# Altium integrated library 74479014_Altium_WE-MI_rev19a.IntLib: 61 symbols
Pins are listed as number, name and electrical type; pins without a type are passive.

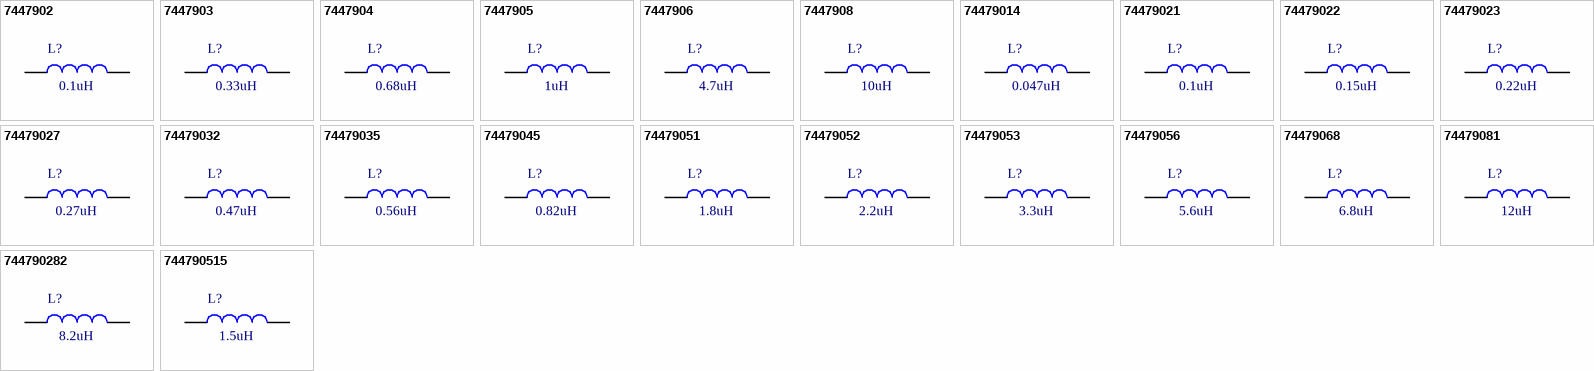
[diagram p0: symbols 7447902 to 744790515]

## 7447902
designator L?, comment 0.1uH
WE-MI SMT Multilayer Inductor, size 0805, 0.1uH, 250mA; Part Number: 7447902; DC Resistance max.: 0.3Ohm; Self Resonant Frequency: 255MHz; Q-Factor: 20; ComponentLink1Description: Manufacturer; ComponentLink1URL: http://www.we-online.de; ComponentLink2Description: Datasheet; ComponentLink2URL: https://katalog.we-online.com/pbs/datasheet/7447902.pdf; Published Date: March 2019; Publisher: Wurth Elektronik; Rated Current: 250mA; Inductance: 0.1uH; Operating Temperature: -55 to +125degC; Mounting Technology: SMT; Packaging: Tape and Reel; Size: 0805
footprint WE-MI_0805_H=0.9mm
pins: 1, 2

## 7447903
designator L?, comment 0.33uH
WE-MI SMT Multilayer Inductor, size 0805, 0.33uH, 250mA; Part Number: 7447903; DC Resistance max.: 0.5Ohm; Self Resonant Frequency: 165MHz; Q-Factor: 20; ComponentLink1Description: Manufacturer; ComponentLink1URL: http://www.we-online.de; ComponentLink2Description: Datasheet; ComponentLink2URL: https://katalog.we-online.com/pbs/datasheet/7447903.pdf; Published Date: March 2019; Publisher: Wurth Elektronik; Rated Current: 250mA; Inductance: 0.33uH; Operating Temperature: -55 to +125degC; Mounting Technology: SMT; Packaging: Tape and Reel; Size: 0805
footprint WE-MI_0805_H=0.9mm
pins: 1, 2

## 7447904
designator L?, comment 0.68uH
WE-MI SMT Multilayer Inductor, size 0805, 0.68uH, 150mA; Part Number: 7447904; DC Resistance max.: 0.8Ohm; Self Resonant Frequency: 120MHz; Q-Factor: 25; ComponentLink1Description: Manufacturer; ComponentLink1URL: http://www.we-online.de; ComponentLink2Description: Datasheet; ComponentLink2URL: https://katalog.we-online.com/pbs/datasheet/7447904.pdf; Published Date: March 2019; Publisher: Wurth Elektronik; Rated Current: 150mA; Inductance: 0.68uH; Operating Temperature: -55 to +125degC; Mounting Technology: SMT; Packaging: Tape and Reel; Size: 0805
footprint WE-MI_0805_H=1.25mm
pins: 1, 2

## 7447905
designator L?, comment 1uH
WE-MI SMT Multilayer Inductor, size 0805, 1uH, 50mA; Part Number: 7447905; DC Resistance max.: 0.4Ohm; Self Resonant Frequency: 85MHz; Q-Factor: 45; ComponentLink1Description: Manufacturer; ComponentLink1URL: http://www.we-online.de; ComponentLink2Description: Datasheet; ComponentLink2URL: https://katalog.we-online.com/pbs/datasheet/7447905.pdf; Published Date: March 2019; Publisher: Wurth Elektronik; Rated Current: 50mA; Inductance: 1uH; Operating Temperature: -55 to +125degC; Mounting Technology: SMT; Packaging: Tape and Reel; Size: 0805
footprint WE-MI_0805_H=0.9mm
pins: 1, 2

## 7447906
designator L?, comment 4.7uH
WE-MI SMT Multilayer Inductor, size 0805, 4.7uH, 30mA; Part Number: 7447906; DC Resistance max.: 1Ohm; Self Resonant Frequency: 41MHz; Q-Factor: 45; ComponentLink1Description: Manufacturer; ComponentLink1URL: http://www.we-online.de; ComponentLink2Description: Datasheet; ComponentLink2URL: https://katalog.we-online.com/pbs/datasheet/7447906.pdf; Published Date: March 2019; Publisher: Wurth Elektronik; Rated Current: 30mA; Inductance: 4.7uH; Operating Temperature: -55 to +125degC; Mounting Technology: SMT; Packaging: Tape and Reel; Size: 0805
footprint WE-MI_0805_H=1.25mm
pins: 1, 2

## 7447908
designator L?, comment 10uH
WE-MI SMT Multilayer Inductor, size 0805, 10uH, 15mA; Part Number: 7447908; DC Resistance max.: 1Ohm; Self Resonant Frequency: 28MHz; Q-Factor: 50; ComponentLink1Description: Manufacturer; ComponentLink1URL: http://www.we-online.de; ComponentLink2Description: Datasheet; ComponentLink2URL: https://katalog.we-online.com/pbs/datasheet/7447908.pdf; Published Date: March 2019; Publisher: Wurth Elektronik; Rated Current: 15mA; Inductance: 10uH; Operating Temperature: -55 to +125degC; Mounting Technology: SMT; Packaging: Tape and Reel; Size: 0805
footprint WE-MI_0805_H=1.25mm
pins: 1, 2

## 74479014
designator L?, comment 0.047uH
WE-MI SMT Multilayer Inductor, size 0805, 0.047uH, 300mA; Part Number: 74479014; DC Resistance max.: 0.2Ohm; Self Resonant Frequency: 320MHz; Q-Factor: 20; ComponentLink1Description: Manufacturer; ComponentLink1URL: http://www.we-online.de; ComponentLink2Description: Datasheet; ComponentLink2URL: https://katalog.we-online.com/pbs/datasheet/74479014.pdf; Published Date: March 2019; Publisher: Wurth Elektronik; Rated Current: 300mA; Inductance: 0.047uH; Operating Temperature: -55 to +125degC; Mounting Technology: SMT; Packaging: Tape and Reel; Size: 0805
footprint WE-MI_0805_H=0.9mm
pins: 1, 2

## 74479021
designator L?, comment 0.1uH
WE-MI SMT Multilayer Inductor, size 0805, 0.1uH, 250mA; Part Number: 74479021; DC Resistance max.: 0.2Ohm; Self Resonant Frequency: 230MHz; Q-Factor: 20; ComponentLink1Description: Manufacturer; ComponentLink1URL: http://www.we-online.de; ComponentLink2Description: Datasheet; ComponentLink2URL: https://katalog.we-online.com/pbs/datasheet/74479021.pdf; Published Date: March 2019; Publisher: Wurth Elektronik; Rated Current: 250mA; Inductance: 0.1uH; Operating Temperature: -55 to +125degC; Mounting Technology: SMT; Packaging: Tape and Reel; Size: 0805
footprint WE-MI_0805_H=0.9mm
pins: 1, 2

## 74479022
designator L?, comment 0.15uH
WE-MI SMT Multilayer Inductor, size 0805, 0.15uH, 250mA; Part Number: 74479022; DC Resistance max.: 0.4Ohm; Self Resonant Frequency: 210MHz; Q-Factor: 20; ComponentLink1Description: Manufacturer; ComponentLink1URL: http://www.we-online.de; ComponentLink2Description: Datasheet; ComponentLink2URL: https://katalog.we-online.com/pbs/datasheet/74479022.pdf; Published Date: March 2019; Publisher: Wurth Elektronik; Rated Current: 250mA; Inductance: 0.15uH; Operating Temperature: -55 to +125degC; Mounting Technology: SMT; Packaging: Tape and Reel; Size: 0805
footprint WE-MI_0805_H=0.9mm
pins: 1, 2

## 74479023
designator L?, comment 0.22uH
WE-MI SMT Multilayer Inductor, size 0805, 0.22uH, 250mA; Part Number: 74479023; DC Resistance max.: 0.5Ohm; Self Resonant Frequency: 195MHz; Q-Factor: 20; ComponentLink1Description: Manufacturer; ComponentLink1URL: http://www.we-online.de; ComponentLink2Description: Datasheet; ComponentLink2URL: https://katalog.we-online.com/pbs/datasheet/74479023.pdf; Published Date: March 2019; Publisher: Wurth Elektronik; Rated Current: 250mA; Inductance: 0.22uH; Operating Temperature: -55 to +125degC; Mounting Technology: SMT; Packaging: Tape and Reel; Size: 0805
footprint WE-MI_0805_H=0.9mm
pins: 1, 2

## 74479027
designator L?, comment 0.27uH
WE-MI SMT Multilayer Inductor, size 0805, 0.27uH, 250mA; Part Number: 74479027; DC Resistance max.: 0.5Ohm; Self Resonant Frequency: 170MHz; Q-Factor: 20; ComponentLink1Description: Manufacturer; ComponentLink1URL: http://www.we-online.de; ComponentLink2Description: Datasheet; ComponentLink2URL: https://katalog.we-online.com/pbs/datasheet/74479027.pdf; Published Date: March 2019; Publisher: Wurth Elektronik; Rated Current: 250mA; Inductance: 0.27uH; Operating Temperature: -55 to +125degC; Mounting Technology: SMT; Packaging: Tape and Reel; Size: 0805
footprint WE-MI_0805_H=0.9mm
pins: 1, 2

## 74479032
designator L?, comment 0.47uH
WE-MI SMT Multilayer Inductor, size 0805, 0.47uH, 200mA; Part Number: 74479032; DC Resistance max.: 0.6Ohm; Self Resonant Frequency: 140MHz; Q-Factor: 25; ComponentLink1Description: Manufacturer; ComponentLink1URL: http://www.we-online.de; ComponentLink2Description: Datasheet; ComponentLink2URL: https://katalog.we-online.com/pbs/datasheet/74479032.pdf; Published Date: March 2019; Publisher: Wurth Elektronik; Rated Current: 200mA; Inductance: 0.47uH; Operating Temperature: -55 to +125degC; Mounting Technology: SMT; Packaging: Tape and Reel; Size: 0805
footprint WE-MI_0805_H=1.25mm
pins: 1, 2

## 74479035
designator L?, comment 0.56uH
WE-MI SMT Multilayer Inductor, size 0805, 0.56uH, 150mA; Part Number: 74479035; DC Resistance max.: 0.7Ohm; Self Resonant Frequency: 130MHz; Q-Factor: 25; ComponentLink1Description: Manufacturer; ComponentLink1URL: http://www.we-online.de; ComponentLink2Description: Datasheet; ComponentLink2URL: https://katalog.we-online.com/pbs/datasheet/74479035.pdf; Published Date: March 2019; Publisher: Wurth Elektronik; Rated Current: 150mA; Inductance: 0.56uH; Operating Temperature: -55 to +125degC; Mounting Technology: SMT; Packaging: Tape and Reel; Size: 0805
footprint WE-MI_0805_H=1.25mm
pins: 1, 2

## 74479045
designator L?, comment 0.82uH
WE-MI SMT Multilayer Inductor, size 0805, 0.82uH, 150mA; Part Number: 74479045; DC Resistance max.: 1Ohm; Self Resonant Frequency: 115MHz; Q-Factor: 25; ComponentLink1Description: Manufacturer; ComponentLink1URL: http://www.we-online.de; ComponentLink2Description: Datasheet; ComponentLink2URL: https://katalog.we-online.com/pbs/datasheet/74479045.pdf; Published Date: March 2019; Publisher: Wurth Elektronik; Rated Current: 150mA; Inductance: 0.82uH; Operating Temperature: -55 to +125degC; Mounting Technology: SMT; Packaging: Tape and Reel; Size: 0805
footprint WE-MI_0805_H=1.25mm
pins: 1, 2

## 74479051
designator L?, comment 1.8uH
WE-MI SMT Multilayer Inductor, size 0805, 1.8uH, 50mA; Part Number: 74479051; DC Resistance max.: 0.6Ohm; Self Resonant Frequency: 60MHz; Q-Factor: 45; ComponentLink1Description: Manufacturer; ComponentLink1URL: http://www.we-online.de; ComponentLink2Description: Datasheet; ComponentLink2URL: https://katalog.we-online.com/pbs/datasheet/74479051.pdf; Published Date: March 2019; Publisher: Wurth Elektronik; Rated Current: 50mA; Inductance: 1.8uH; Operating Temperature: -55 to +125degC; Mounting Technology: SMT; Packaging: Tape and Reel; Size: 0805
footprint WE-MI_0805_H=0.9mm
pins: 1, 2

## 74479052
designator L?, comment 2.2uH
WE-MI SMT Multilayer Inductor, size 0805, 2.2uH, 30mA; Part Number: 74479052; DC Resistance max.: 0.6Ohm; Self Resonant Frequency: 55MHz; Q-Factor: 45; ComponentLink1Description: Manufacturer; ComponentLink1URL: http://www.we-online.de; ComponentLink2Description: Datasheet; ComponentLink2URL: https://katalog.we-online.com/pbs/datasheet/74479052.pdf; Published Date: March 2019; Publisher: Wurth Elektronik; Rated Current: 30mA; Inductance: 2.2uH; Operating Temperature: -55 to +125degC; Mounting Technology: SMT; Packaging: Tape and Reel; Size: 0805
footprint WE-MI_0805_H=0.9mm
pins: 1, 2

## 74479053
designator L?, comment 3.3uH
WE-MI SMT Multilayer Inductor, size 0805, 3.3uH, 30mA; Part Number: 74479053; DC Resistance max.: 0.8Ohm; Self Resonant Frequency: 45MHz; Q-Factor: 45; ComponentLink1Description: Manufacturer; ComponentLink1URL: http://www.we-online.de; ComponentLink2Description: Datasheet; ComponentLink2URL: https://katalog.we-online.com/pbs/datasheet/74479053.pdf; Published Date: March 2019; Publisher: Wurth Elektronik; Rated Current: 30mA; Inductance: 3.3uH; Operating Temperature: -55 to +125degC; Mounting Technology: SMT; Packaging: Tape and Reel; Size: 0805
footprint WE-MI_0805_H=1.25mm
pins: 1, 2

## 74479056
designator L?, comment 5.6uH
WE-MI SMT Multilayer Inductor, size 0805, 5.6uH, 15mA; Part Number: 74479056; DC Resistance max.: 0.9Ohm; Self Resonant Frequency: 37MHz; Q-Factor: 50; ComponentLink1Description: Manufacturer; ComponentLink1URL: http://www.we-online.de; ComponentLink2Description: Datasheet; ComponentLink2URL: https://katalog.we-online.com/pbs/datasheet/74479056.pdf; Published Date: March 2019; Publisher: Wurth Elektronik; Rated Current: 15mA; Inductance: 5.6uH; Operating Temperature: -55 to +125degC; Mounting Technology: SMT; Packaging: Tape and Reel; Size: 0805
footprint WE-MI_0805_H=1.25mm
pins: 1, 2

## 74479068
designator L?, comment 6.8uH
WE-MI SMT Multilayer Inductor, size 0805, 6.8uH, 15mA; Part Number: 74479068; DC Resistance max.: 1Ohm; Self Resonant Frequency: 29MHz; Q-Factor: 50; ComponentLink1Description: Manufacturer; ComponentLink1URL: http://www.we-online.de; ComponentLink2Description: Datasheet; ComponentLink2URL: https://katalog.we-online.com/pbs/datasheet/74479068.pdf; Published Date: March 2019; Publisher: Wurth Elektronik; Rated Current: 15mA; Inductance: 6.8uH; Operating Temperature: -55 to +125degC; Mounting Technology: SMT; Packaging: Tape and Reel; Size: 0805
footprint WE-MI_0805_H=1.25mm
pins: 1, 2

## 74479081
designator L?, comment 12uH
WE-MI SMT Multilayer Inductor, size 0805, 12uH, 15mA; Part Number: 74479081; DC Resistance max.: 1.1Ohm; Self Resonant Frequency: 26MHz; Q-Factor: 50; ComponentLink1Description: Manufacturer; ComponentLink1URL: http://www.we-online.de; ComponentLink2Description: Datasheet; ComponentLink2URL: https://katalog.we-online.com/pbs/datasheet/74479081.pdf; Published Date: March 2019; Publisher: Wurth Elektronik; Rated Current: 15mA; Inductance: 12uH; Operating Temperature: -55 to +125degC; Mounting Technology: SMT; Packaging: Tape and Reel; Size: 0805
footprint WE-MI_0805_H=1.25mm
pins: 1, 2

## 744790282
designator L?, comment 8.2uH
WE-MI SMT Multilayer Inductor, size 0805, 8.2uH, 15mA; Part Number: 744790282; DC Resistance max.: 1Ohm; Self Resonant Frequency: 28MHz; Q-Factor: 50; ComponentLink1Description: Manufacturer; ComponentLink1URL: http://www.we-online.de; ComponentLink2Description: Datasheet; ComponentLink2URL: https://katalog.we-online.com/pbs/datasheet/744790282.pdf; Published Date: March 2019; Publisher: Wurth Elektronik; Rated Current: 15mA; Inductance: 8.2uH; Operating Temperature: -55 to +125degC; Mounting Technology: SMT; Packaging: Tape and Reel; Size: 0805
footprint WE-MI_0805_H=0.9mm
pins: 1, 2

## 744790515
designator L?, comment 1.5uH
WE-MI SMT Multilayer Inductor, size 0805, 1.5uH, 50mA; Part Number: 744790515; DC Resistance max.: 0.5Ohm; Self Resonant Frequency: 65MHz; Q-Factor: 45; ComponentLink1Description: Manufacturer; ComponentLink1URL: http://www.we-online.de; ComponentLink2Description: Datasheet; ComponentLink2URL: https://katalog.we-online.com/pbs/datasheet/744790515.pdf; Published Date: March 2019; Publisher: Wurth Elektronik; Rated Current: 50mA; Inductance: 1.5uH; Operating Temperature: -55 to +125degC; Mounting Technology: SMT; Packaging: Tape and Reel; Size: 0805
footprint WE-MI_0805_H=0.9mm
pins: 1, 2


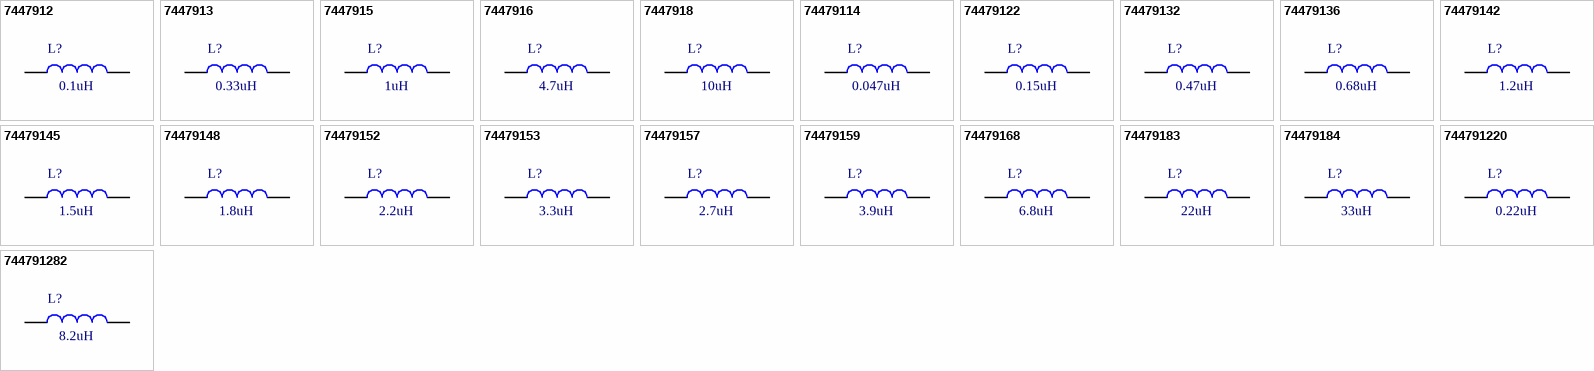
[diagram p1: symbols 7447912 to 744791282]

## 7447912
designator L?, comment 0.1uH
WE-MI SMT Multilayer Inductor, size 1206, 0.1uH, 250mA; Part Number: 7447912; DC Resistance max.: 0.25Ohm; Self Resonant Frequency: 270MHz; Q-Factor: 20; ComponentLink1Description: Manufacturer; ComponentLink1URL: http://www.we-online.de; ComponentLink2Description: Datasheet; ComponentLink2URL: https://katalog.we-online.com/pbs/datasheet/7447912.pdf; Published Date: March 2019; Publisher: Wurth Elektronik; Rated Current: 250mA; Inductance: 0.1uH; Operating Temperature: -55 to +125degC; Mounting Technology: SMT; Packaging: Tape and Reel; Size: 1206
footprint WE-MI_1206
pins: 1, 2

## 7447913
designator L?, comment 0.33uH
WE-MI SMT Multilayer Inductor, size 1206, 0.33uH, 250mA; Part Number: 7447913; DC Resistance max.: 0.5Ohm; Self Resonant Frequency: 145MHz; Q-Factor: 20; ComponentLink1Description: Manufacturer; ComponentLink1URL: http://www.we-online.de; ComponentLink2Description: Datasheet; ComponentLink2URL: https://katalog.we-online.com/pbs/datasheet/7447913.pdf; Published Date: March 2019; Publisher: Wurth Elektronik; Rated Current: 250mA; Inductance: 0.33uH; Operating Temperature: -55 to +125degC; Mounting Technology: SMT; Packaging: Tape and Reel; Size: 1206
footprint WE-MI_1206
pins: 1, 2

## 7447915
designator L?, comment 1uH
WE-MI SMT Multilayer Inductor, size 1206, 1uH, 100mA; Part Number: 7447915; DC Resistance max.: 0.4Ohm; Self Resonant Frequency: 87MHz; Q-Factor: 45; ComponentLink1Description: Manufacturer; ComponentLink1URL: http://www.we-online.de; ComponentLink2Description: Datasheet; ComponentLink2URL: https://katalog.we-online.com/pbs/datasheet/7447915.pdf; Published Date: March 2019; Publisher: Wurth Elektronik; Rated Current: 100mA; Inductance: 1uH; Operating Temperature: -55 to +125degC; Mounting Technology: SMT; Packaging: Tape and Reel; Size: 1206
footprint WE-MI_1206
pins: 1, 2

## 7447916
designator L?, comment 4.7uH
WE-MI SMT Multilayer Inductor, size 1206, 4.7uH, 50mA; Part Number: 7447916; DC Resistance max.: 0.9Ohm; Self Resonant Frequency: 41MHz; Q-Factor: 45; ComponentLink1Description: Manufacturer; ComponentLink1URL: http://www.we-online.de; ComponentLink2Description: Datasheet; ComponentLink2URL: https://katalog.we-online.com/pbs/datasheet/7447916.pdf; Published Date: March 2019; Publisher: Wurth Elektronik; Rated Current: 50mA; Inductance: 4.7uH; Operating Temperature: -55 to +125degC; Mounting Technology: SMT; Packaging: Tape and Reel; Size: 1206
footprint WE-MI_1206
pins: 1, 2

## 7447918
designator L?, comment 10uH
WE-MI SMT Multilayer Inductor, size 1206, 10uH, 25mA; Part Number: 7447918; DC Resistance max.: 0.6Ohm; Self Resonant Frequency: 26MHz; Q-Factor: 50; ComponentLink1Description: Manufacturer; ComponentLink1URL: http://www.we-online.de; ComponentLink2Description: Datasheet; ComponentLink2URL: https://katalog.we-online.com/pbs/datasheet/7447918.pdf; Published Date: March 2019; Publisher: Wurth Elektronik; Rated Current: 25mA; Inductance: 10uH; Operating Temperature: -55 to +125degC; Mounting Technology: SMT; Packaging: Tape and Reel; Size: 1206
footprint WE-MI_1206
pins: 1, 2

## 74479114
designator L?, comment 0.047uH
WE-MI SMT Multilayer Inductor, size 1206, 0.047uH, 300mA; Part Number: 74479114; DC Resistance max.: 0.15Ohm; Self Resonant Frequency: 320MHz; Q-Factor: 20; ComponentLink1Description: Manufacturer; ComponentLink1URL: http://www.we-online.de; ComponentLink2Description: Datasheet; ComponentLink2URL: https://katalog.we-online.com/pbs/datasheet/74479114.pdf; Published Date: March 2019; Publisher: Wurth Elektronik; Rated Current: 300mA; Inductance: 0.047uH; Operating Temperature: -55 to +125degC; Mounting Technology: SMT; Packaging: Tape and Reel; Size: 1206
footprint WE-MI_1206
pins: 1, 2

## 74479122
designator L?, comment 0.15uH
WE-MI SMT Multilayer Inductor, size 1206, 0.15uH, 250mA; Part Number: 74479122; DC Resistance max.: 0.3Ohm; Self Resonant Frequency: 200MHz; Q-Factor: 20; ComponentLink1Description: Manufacturer; ComponentLink1URL: http://www.we-online.de; ComponentLink2Description: Datasheet; ComponentLink2URL: https://katalog.we-online.com/pbs/datasheet/74479122.pdf; Published Date: March 2019; Publisher: Wurth Elektronik; Rated Current: 250mA; Inductance: 0.15uH; Operating Temperature: -55 to +125degC; Mounting Technology: SMT; Packaging: Tape and Reel; Size: 1206
footprint WE-MI_1206
pins: 1, 2

## 74479132
designator L?, comment 0.47uH
WE-MI SMT Multilayer Inductor, size 1206, 0.47uH, 200mA; Part Number: 74479132; DC Resistance max.: 0.6Ohm; Self Resonant Frequency: 125MHz; Q-Factor: 25; ComponentLink1Description: Manufacturer; ComponentLink1URL: http://www.we-online.de; ComponentLink2Description: Datasheet; ComponentLink2URL: https://katalog.we-online.com/pbs/datasheet/74479132.pdf; Published Date: March 2019; Publisher: Wurth Elektronik; Rated Current: 200mA; Inductance: 0.47uH; Operating Temperature: -55 to +125degC; Mounting Technology: SMT; Packaging: Tape and Reel; Size: 1206
footprint WE-MI_1206
pins: 1, 2

## 74479136
designator L?, comment 0.68uH
WE-MI SMT Multilayer Inductor, size 1206, 0.68uH, 150mA; Part Number: 74479136; DC Resistance max.: 0.8Ohm; Self Resonant Frequency: 105MHz; Q-Factor: 25; ComponentLink1Description: Manufacturer; ComponentLink1URL: http://www.we-online.de; ComponentLink2Description: Datasheet; ComponentLink2URL: https://katalog.we-online.com/pbs/datasheet/74479136.pdf; Published Date: March 2019; Publisher: Wurth Elektronik; Rated Current: 150mA; Inductance: 0.68uH; Operating Temperature: -55 to +125degC; Mounting Technology: SMT; Packaging: Tape and Reel; Size: 1206
footprint WE-MI_1206
pins: 1, 2

## 74479142
designator L?, comment 1.2uH
WE-MI SMT Multilayer Inductor, size 1206, 1.2uH, 100mA; Part Number: 74479142; DC Resistance max.: 0.5Ohm; Self Resonant Frequency: 75MHz; Q-Factor: 45; ComponentLink1Description: Manufacturer; ComponentLink1URL: http://www.we-online.de; ComponentLink2Description: Datasheet; ComponentLink2URL: https://katalog.we-online.com/pbs/datasheet/74479142.pdf; Published Date: March 2019; Publisher: Wurth Elektronik; Rated Current: 100mA; Inductance: 1.2uH; Operating Temperature: -55 to +125degC; Mounting Technology: SMT; Packaging: Tape and Reel; Size: 1206
footprint WE-MI_1206
pins: 1, 2

## 74479145
designator L?, comment 1.5uH
WE-MI SMT Multilayer Inductor, size 1206, 1.5uH, 50mA; Part Number: 74479145; DC Resistance max.: 0.5Ohm; Self Resonant Frequency: 69MHz; Q-Factor: 45; ComponentLink1Description: Manufacturer; ComponentLink1URL: http://www.we-online.de; ComponentLink2Description: Datasheet; ComponentLink2URL: https://katalog.we-online.com/pbs/datasheet/74479145.pdf; Published Date: March 2019; Publisher: Wurth Elektronik; Rated Current: 50mA; Inductance: 1.5uH; Operating Temperature: -55 to +125degC; Mounting Technology: SMT; Packaging: Tape and Reel; Size: 1206
footprint WE-MI_1206
pins: 1, 2

## 74479148
designator L?, comment 1.8uH
WE-MI SMT Multilayer Inductor, size 1206, 1.8uH, 50mA; Part Number: 74479148; DC Resistance max.: 0.5Ohm; Self Resonant Frequency: 64MHz; Q-Factor: 45; ComponentLink1Description: Manufacturer; ComponentLink1URL: http://www.we-online.de; ComponentLink2Description: Datasheet; ComponentLink2URL: https://katalog.we-online.com/pbs/datasheet/74479148.pdf; Published Date: March 2019; Publisher: Wurth Elektronik; Rated Current: 50mA; Inductance: 1.8uH; Operating Temperature: -55 to +125degC; Mounting Technology: SMT; Packaging: Tape and Reel; Size: 1206
footprint WE-MI_1206
pins: 1, 2

## 74479152
designator L?, comment 2.2uH
WE-MI SMT Multilayer Inductor, size 1206, 2.2uH, 50mA; Part Number: 74479152; DC Resistance max.: 0.6Ohm; Self Resonant Frequency: 58MHz; Q-Factor: 45; ComponentLink1Description: Manufacturer; ComponentLink1URL: http://www.we-online.de; ComponentLink2Description: Datasheet; ComponentLink2URL: https://katalog.we-online.com/pbs/datasheet/74479152.pdf; Published Date: March 2019; Publisher: Wurth Elektronik; Rated Current: 50mA; Inductance: 2.2uH; Operating Temperature: -55 to +125degC; Mounting Technology: SMT; Packaging: Tape and Reel; Size: 1206
footprint WE-MI_1206
pins: 1, 2

## 74479153
designator L?, comment 3.3uH
WE-MI SMT Multilayer Inductor, size 1206, 3.3uH, 50mA; Part Number: 74479153; DC Resistance max.: 0.7Ohm; Self Resonant Frequency: 48MHz; Q-Factor: 45; ComponentLink1Description: Manufacturer; ComponentLink1URL: http://www.we-online.de; ComponentLink2Description: Datasheet; ComponentLink2URL: https://katalog.we-online.com/pbs/datasheet/74479153.pdf; Published Date: March 2019; Publisher: Wurth Elektronik; Rated Current: 50mA; Inductance: 3.3uH; Operating Temperature: -55 to +125degC; Mounting Technology: SMT; Packaging: Tape and Reel; Size: 1206
footprint WE-MI_1206
pins: 1, 2

## 74479157
designator L?, comment 2.7uH
WE-MI SMT Multilayer Inductor, size 1206, 2.7uH, 50mA; Part Number: 74479157; DC Resistance max.: 0.6Ohm; Self Resonant Frequency: 52MHz; Q-Factor: 45; ComponentLink1Description: Manufacturer; ComponentLink1URL: http://www.we-online.de; ComponentLink2Description: Datasheet; ComponentLink2URL: https://katalog.we-online.com/pbs/datasheet/74479157.pdf; Published Date: March 2019; Publisher: Wurth Elektronik; Rated Current: 50mA; Inductance: 2.7uH; Operating Temperature: -55 to +125degC; Mounting Technology: SMT; Packaging: Tape and Reel; Size: 1206
footprint WE-MI_1206
pins: 1, 2

## 74479159
designator L?, comment 3.9uH
WE-MI SMT Multilayer Inductor, size 1206, 3.9uH, 50mA; Part Number: 74479159; DC Resistance max.: 0.8Ohm; Self Resonant Frequency: 44MHz; Q-Factor: 45; ComponentLink1Description: Manufacturer; ComponentLink1URL: http://www.we-online.de; ComponentLink2Description: Datasheet; ComponentLink2URL: https://katalog.we-online.com/pbs/datasheet/74479159.pdf; Published Date: March 2019; Publisher: Wurth Elektronik; Rated Current: 50mA; Inductance: 3.9uH; Operating Temperature: -55 to +125degC; Mounting Technology: SMT; Packaging: Tape and Reel; Size: 1206
footprint WE-MI_1206
pins: 1, 2

## 74479168
designator L?, comment 6.8uH
WE-MI SMT Multilayer Inductor, size 1206, 6.8uH, 25mA; Part Number: 74479168; DC Resistance max.: 0.9Ohm; Self Resonant Frequency: 29MHz; Q-Factor: 50; ComponentLink1Description: Manufacturer; ComponentLink1URL: http://www.we-online.de; ComponentLink2Description: Datasheet; ComponentLink2URL: https://katalog.we-online.com/pbs/datasheet/74479168.pdf; Published Date: March 2019; Publisher: Wurth Elektronik; Rated Current: 25mA; Inductance: 6.8uH; Operating Temperature: -55 to +125degC; Mounting Technology: SMT; Packaging: Tape and Reel; Size: 1206
footprint WE-MI_1206
pins: 1, 2

## 74479183
designator L?, comment 22uH
WE-MI SMT Multilayer Inductor, size 1206, 22uH, 5mA; Part Number: 74479183; DC Resistance max.: 0.9Ohm; Self Resonant Frequency: 19MHz; Q-Factor: 50; ComponentLink1Description: Manufacturer; ComponentLink1URL: http://www.we-online.de; ComponentLink2Description: Datasheet; ComponentLink2URL: https://katalog.we-online.com/pbs/datasheet/74479183.pdf; Published Date: March 2019; Publisher: Wurth Elektronik; Rated Current: 5mA; Inductance: 22uH; Operating Temperature: -55 to +125degC; Mounting Technology: SMT; Packaging: Tape and Reel; Size: 1206
footprint WE-MI_1206
pins: 1, 2

## 74479184
designator L?, comment 33uH
WE-MI SMT Multilayer Inductor, size 1206, 33uH, 25mA; Part Number: 74479184; DC Resistance max.: 0.9Ohm; Self Resonant Frequency: 13MHz; Q-Factor: 35; ComponentLink1Description: Manufacturer; ComponentLink1URL: http://www.we-online.de; ComponentLink2Description: Datasheet; ComponentLink2URL: https://katalog.we-online.com/pbs/datasheet/74479184.pdf; Published Date: March 2019; Publisher: Wurth Elektronik; Rated Current: 25mA; Inductance: 33uH; Operating Temperature: -55 to +125degC; Mounting Technology: SMT; Packaging: Tape and Reel; Size: 1206
footprint WE-MI_1206
pins: 1, 2

## 744791220
designator L?, comment 0.22uH
WE-MI SMT Multilayer Inductor, size 1206, 0.22uH, 250mA; Part Number: 744791220; DC Resistance max.: 0.4Ohm; Self Resonant Frequency: 170MHz; Q-Factor: 20; ComponentLink1Description: Manufacturer; ComponentLink1URL: http://www.we-online.de; ComponentLink2Description: Datasheet; ComponentLink2URL: https://katalog.we-online.com/pbs/datasheet/744791220.pdf; Published Date: March 2019; Publisher: Wurth Elektronik; Rated Current: 250mA; Inductance: 0.22uH; Operating Temperature: -55 to +125degC; Mounting Technology: SMT; Packaging: Tape and Reel; Size: 1206
footprint WE-MI_1206
pins: 1, 2

## 744791282
designator L?, comment 8.2uH
WE-MI SMT Multilayer Inductor, size 1206, 8.2uH, 25mA; Part Number: 744791282; DC Resistance max.: 0.9Ohm; Self Resonant Frequency: 28MHz; Q-Factor: 50; ComponentLink1Description: Manufacturer; ComponentLink1URL: http://www.we-online.de; ComponentLink2Description: Datasheet; ComponentLink2URL: https://katalog.we-online.com/pbs/datasheet/744791282.pdf; Published Date: March 2019; Publisher: Wurth Elektronik; Rated Current: 25mA; Inductance: 8.2uH; Operating Temperature: -55 to +125degC; Mounting Technology: SMT; Packaging: Tape and Reel; Size: 1206
footprint WE-MI_1206
pins: 1, 2


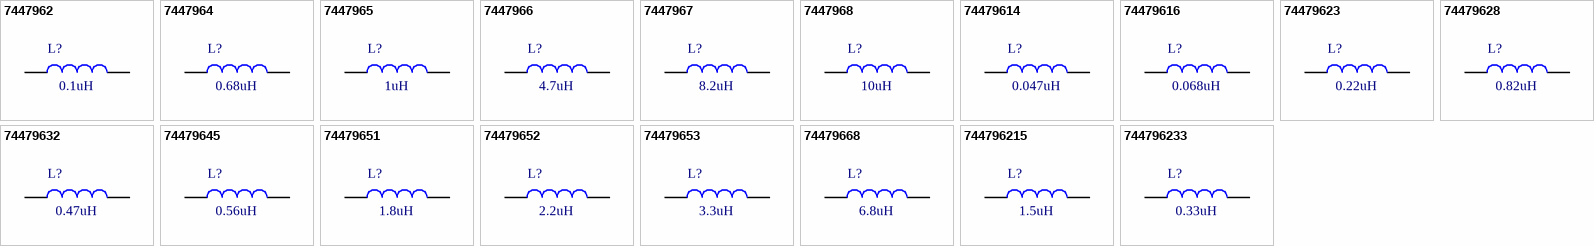
[diagram p2: symbols 7447962 to 744796233]

## 7447962
designator L?, comment 0.1uH
WE-MI SMT Multilayer Inductor, size 0603, 0.1uH, 50mA; Part Number: 7447962; DC Resistance max.: 0.5Ohm; Self Resonant Frequency: 240MHz; Q-Factor: 15; ComponentLink1Description: Manufacturer; ComponentLink1URL: http://www.we-online.de; ComponentLink2Description: Datasheet; ComponentLink2URL: https://katalog.we-online.com/pbs/datasheet/7447962.pdf; Published Date: March 2019; Publisher: Wurth Elektronik; Rated Current: 50mA; Inductance: 0.1uH; Operating Temperature: -55 to +125degC; Mounting Technology: SMT; Packaging: Tape and Reel; Size: 0603
footprint WE-MI_0603
pins: 1, 2

## 7447964
designator L?, comment 0.68uH
WE-MI SMT Multilayer Inductor, size 0603, 0.68uH, 35mA; Part Number: 7447964; DC Resistance max.: 1.7Ohm; Self Resonant Frequency: 90MHz; Q-Factor: 15; ComponentLink1Description: Manufacturer; ComponentLink1URL: http://www.we-online.de; ComponentLink2Description: Datasheet; ComponentLink2URL: https://katalog.we-online.com/pbs/datasheet/7447964.pdf; Published Date: March 2019; Publisher: Wurth Elektronik; Rated Current: 35mA; Inductance: 0.68uH; Operating Temperature: -55 to +125degC; Mounting Technology: SMT; Packaging: Tape and Reel; Size: 0603
footprint WE-MI_0603
pins: 1, 2

## 7447965
designator L?, comment 1uH
WE-MI SMT Multilayer Inductor, size 0603, 1uH, 25mA; Part Number: 7447965; DC Resistance max.: 0.6Ohm; Self Resonant Frequency: 85MHz; Q-Factor: 35; ComponentLink1Description: Manufacturer; ComponentLink1URL: http://www.we-online.de; ComponentLink2Description: Datasheet; ComponentLink2URL: https://katalog.we-online.com/pbs/datasheet/7447965.pdf; Published Date: March 2019; Publisher: Wurth Elektronik; Rated Current: 25mA; Inductance: 1uH; Operating Temperature: -55 to +125degC; Mounting Technology: SMT; Packaging: Tape and Reel; Size: 0603
footprint WE-MI_0603
pins: 1, 2

## 7447966
designator L?, comment 4.7uH
WE-MI SMT Multilayer Inductor, size 0603, 4.7uH, 15mA; Part Number: 7447966; DC Resistance max.: 1.8Ohm; Self Resonant Frequency: 40MHz; Q-Factor: 35; ComponentLink1Description: Manufacturer; ComponentLink1URL: http://www.we-online.de; ComponentLink2Description: Datasheet; ComponentLink2URL: https://katalog.we-online.com/pbs/datasheet/7447966.pdf; Published Date: March 2019; Publisher: Wurth Elektronik; Rated Current: 15mA; Inductance: 4.7uH; Operating Temperature: -55 to +125degC; Mounting Technology: SMT; Packaging: Tape and Reel; Size: 0603
footprint WE-MI_0603
pins: 1, 2

## 7447967
designator L?, comment 8.2uH
WE-MI SMT Multilayer Inductor, size 0603, 8.2uH, 5mA; Part Number: 7447967; DC Resistance max.: 2.1Ohm; Self Resonant Frequency: 18MHz; Q-Factor: 35; ComponentLink1Description: Manufacturer; ComponentLink1URL: http://www.we-online.de; ComponentLink2Description: Datasheet; ComponentLink2URL: https://katalog.we-online.com/pbs/datasheet/7447967.pdf; Published Date: March 2019; Publisher: Wurth Elektronik; Rated Current: 5mA; Inductance: 8.2uH; Operating Temperature: -55 to +125degC; Mounting Technology: SMT; Packaging: Tape and Reel; Size: 0603
footprint WE-MI_0603
pins: 1, 2

## 7447968
designator L?, comment 10uH
WE-MI SMT Multilayer Inductor, size 0603, 10uH, 3mA; Part Number: 7447968; DC Resistance max.: 1.85Ohm; Self Resonant Frequency: 17MHz; Q-Factor: 30; ComponentLink1Description: Manufacturer; ComponentLink1URL: http://www.we-online.de; ComponentLink2Description: Datasheet; ComponentLink2URL: https://katalog.we-online.com/pbs/datasheet/7447968.pdf; Published Date: March 2019; Publisher: Wurth Elektronik; Rated Current: 3mA; Inductance: 10uH; Operating Temperature: -55 to +125degC; Mounting Technology: SMT; Packaging: Tape and Reel; Size: 0603
footprint WE-MI_0603
pins: 1, 2

## 74479614
designator L?, comment 0.047uH
WE-MI SMT Multilayer Inductor, size 0603, 0.047uH, 50mA; Part Number: 74479614; DC Resistance max.: 0.25Ohm; Self Resonant Frequency: 260MHz; Q-Factor: 10; ComponentLink1Description: Manufacturer; ComponentLink1URL: http://www.we-online.de; ComponentLink2Description: Datasheet; ComponentLink2URL: https://katalog.we-online.com/pbs/datasheet/74479614.pdf; Published Date: March 2019; Publisher: Wurth Elektronik; Rated Current: 50mA; Inductance: 0.047uH; Operating Temperature: -55 to +125degC; Mounting Technology: SMT; Packaging: Tape and Reel; Size: 0603
footprint WE-MI_0603
pins: 1, 2

## 74479616
designator L?, comment 0.068uH
WE-MI SMT Multilayer Inductor, size 0603, 0.068uH, 50mA; Part Number: 74479616; DC Resistance max.: 0.25Ohm; Self Resonant Frequency: 250MHz; Q-Factor: 10; ComponentLink1Description: Manufacturer; ComponentLink1URL: http://www.we-online.de; ComponentLink2Description: Datasheet; ComponentLink2URL: https://katalog.we-online.com/pbs/datasheet/74479616.pdf; Published Date: March 2019; Publisher: Wurth Elektronik; Rated Current: 50mA; Inductance: 0.068uH; Operating Temperature: -55 to +125degC; Mounting Technology: SMT; Packaging: Tape and Reel; Size: 0603
footprint WE-MI_0603
pins: 1, 2

## 74479623
designator L?, comment 0.22uH
WE-MI SMT Multilayer Inductor, size 0603, 0.22uH, 50mA; Part Number: 74479623; DC Resistance max.: 0.8Ohm; Self Resonant Frequency: 170MHz; Q-Factor: 15; ComponentLink1Description: Manufacturer; ComponentLink1URL: http://www.we-online.de; ComponentLink2Description: Datasheet; ComponentLink2URL: https://katalog.we-online.com/pbs/datasheet/74479623.pdf; Published Date: March 2019; Publisher: Wurth Elektronik; Rated Current: 50mA; Inductance: 0.22uH; Operating Temperature: -55 to +125degC; Mounting Technology: SMT; Packaging: Tape and Reel; Size: 0603
footprint WE-MI_0603
pins: 1, 2

## 74479628
designator L?, comment 0.82uH
WE-MI SMT Multilayer Inductor, size 0603, 0.82uH, 35mA; Part Number: 74479628; DC Resistance max.: 2.1Ohm; Self Resonant Frequency: 95MHz; Q-Factor: 15; ComponentLink1Description: Manufacturer; ComponentLink1URL: http://www.we-online.de; ComponentLink2Description: Datasheet; ComponentLink2URL: https://katalog.we-online.com/pbs/datasheet/74479628.pdf; Published Date: March 2019; Publisher: Wurth Elektronik; Rated Current: 35mA; Inductance: 0.82uH; Operating Temperature: -55 to +125degC; Mounting Technology: SMT; Packaging: Tape and Reel; Size: 0603
footprint WE-MI_0603
pins: 1, 2

## 74479632
designator L?, comment 0.47uH
WE-MI SMT Multilayer Inductor, size 0603, 0.47uH, 35mA; Part Number: 74479632; DC Resistance max.: 1Ohm; Self Resonant Frequency: 120MHz; Q-Factor: 15; ComponentLink1Description: Manufacturer; ComponentLink1URL: http://www.we-online.de; ComponentLink2Description: Datasheet; ComponentLink2URL: https://katalog.we-online.com/pbs/datasheet/74479632.pdf; Published Date: March 2019; Publisher: Wurth Elektronik; Rated Current: 35mA; Inductance: 0.47uH; Operating Temperature: -55 to +125degC; Mounting Technology: SMT; Packaging: Tape and Reel; Size: 0603
footprint WE-MI_0603
pins: 1, 2

## 74479645
designator L?, comment 0.56uH
WE-MI SMT Multilayer Inductor, size 0603, 0.56uH, 35mA; Part Number: 74479645; DC Resistance max.: 1.55Ohm; Self Resonant Frequency: 110MHz; Q-Factor: 15; ComponentLink1Description: Manufacturer; ComponentLink1URL: http://www.we-online.de; ComponentLink2Description: Datasheet; ComponentLink2URL: https://katalog.we-online.com/pbs/datasheet/74479645.pdf; Published Date: March 2019; Publisher: Wurth Elektronik; Rated Current: 35mA; Inductance: 0.56uH; Operating Temperature: -55 to +125degC; Mounting Technology: SMT; Packaging: Tape and Reel; Size: 0603
footprint WE-MI_0603
pins: 1, 2

## 74479651
designator L?, comment 1.8uH
WE-MI SMT Multilayer Inductor, size 0603, 1.8uH, 25mA; Part Number: 74479651; DC Resistance max.: 0.8Ohm; Self Resonant Frequency: 60MHz; Q-Factor: 35; ComponentLink1Description: Manufacturer; ComponentLink1URL: http://www.we-online.de; ComponentLink2Description: Datasheet; ComponentLink2URL: https://katalog.we-online.com/pbs/datasheet/74479651.pdf; Published Date: March 2019; Publisher: Wurth Elektronik; Rated Current: 25mA; Inductance: 1.8uH; Operating Temperature: -55 to +125degC; Mounting Technology: SMT; Packaging: Tape and Reel; Size: 0603
footprint WE-MI_0603
pins: 1, 2

## 74479652
designator L?, comment 2.2uH
WE-MI SMT Multilayer Inductor, size 0603, 2.2uH, 15mA; Part Number: 74479652; DC Resistance max.: 1Ohm; Self Resonant Frequency: 55MHz; Q-Factor: 35; ComponentLink1Description: Manufacturer; ComponentLink1URL: http://www.we-online.de; ComponentLink2Description: Datasheet; ComponentLink2URL: https://katalog.we-online.com/pbs/datasheet/74479652.pdf; Published Date: March 2019; Publisher: Wurth Elektronik; Rated Current: 15mA; Inductance: 2.2uH; Operating Temperature: -55 to +125degC; Mounting Technology: SMT; Packaging: Tape and Reel; Size: 0603
footprint WE-MI_0603
pins: 1, 2

## 74479653
designator L?, comment 3.3uH
WE-MI SMT Multilayer Inductor, size 0603, 3.3uH, 15mA; Part Number: 74479653; DC Resistance max.: 1.4Ohm; Self Resonant Frequency: 45MHz; Q-Factor: 35; ComponentLink1Description: Manufacturer; ComponentLink1URL: http://www.we-online.de; ComponentLink2Description: Datasheet; ComponentLink2URL: https://katalog.we-online.com/pbs/datasheet/74479653.pdf; Published Date: March 2019; Publisher: Wurth Elektronik; Rated Current: 15mA; Inductance: 3.3uH; Operating Temperature: -55 to +125degC; Mounting Technology: SMT; Packaging: Tape and Reel; Size: 0603
footprint WE-MI_0603
pins: 1, 2

## 74479668
designator L?, comment 6.8uH
WE-MI SMT Multilayer Inductor, size 0603, 6.8uH, 5mA; Part Number: 74479668; DC Resistance max.: 1.7Ohm; Self Resonant Frequency: 20MHz; Q-Factor: 35; ComponentLink1Description: Manufacturer; ComponentLink1URL: http://www.we-online.de; ComponentLink2Description: Datasheet; ComponentLink2URL: https://katalog.we-online.com/pbs/datasheet/74479668.pdf; Published Date: March 2019; Publisher: Wurth Elektronik; Rated Current: 5mA; Inductance: 6.8uH; Operating Temperature: -55 to +125degC; Mounting Technology: SMT; Packaging: Tape and Reel; Size: 0603
footprint WE-MI_0603
pins: 1, 2

## 744796215
designator L?, comment 1.5uH
WE-MI SMT Multilayer Inductor, size 0603, 1.5uH, 25mA; Part Number: 744796215; DC Resistance max.: 0.8Ohm; Self Resonant Frequency: 60MHz; Q-Factor: 35; ComponentLink1Description: Manufacturer; ComponentLink1URL: http://www.we-online.de; ComponentLink2Description: Datasheet; ComponentLink2URL: https://katalog.we-online.com/pbs/datasheet/744796215.pdf; Published Date: March 2019; Publisher: Wurth Elektronik; Rated Current: 25mA; Inductance: 1.5uH; Operating Temperature: -55 to +125degC; Mounting Technology: SMT; Packaging: Tape and Reel; Size: 0603
footprint WE-MI_0603
pins: 1, 2

## 744796233
designator L?, comment 0.33uH
WE-MI SMT Multilayer Inductor, size 0603, 0.33uH, 35mA; Part Number: 744796233; DC Resistance max.: 0.8Ohm; Self Resonant Frequency: 140MHz; Q-Factor: 15; ComponentLink1Description: Manufacturer; ComponentLink1URL: http://www.we-online.de; ComponentLink2Description: Datasheet; ComponentLink2URL: https://katalog.we-online.com/pbs/datasheet/744796233.pdf; Published Date: March 2019; Publisher: Wurth Elektronik; Rated Current: 35mA; Inductance: 0.33uH; Operating Temperature: -55 to +125degC; Mounting Technology: SMT; Packaging: Tape and Reel; Size: 0603
footprint WE-MI_0603
pins: 1, 2